# EAGLE library part XC2S-CS144 (library Xilinx)
Spartan 2 FPGA 15/30 die in a CS144 package
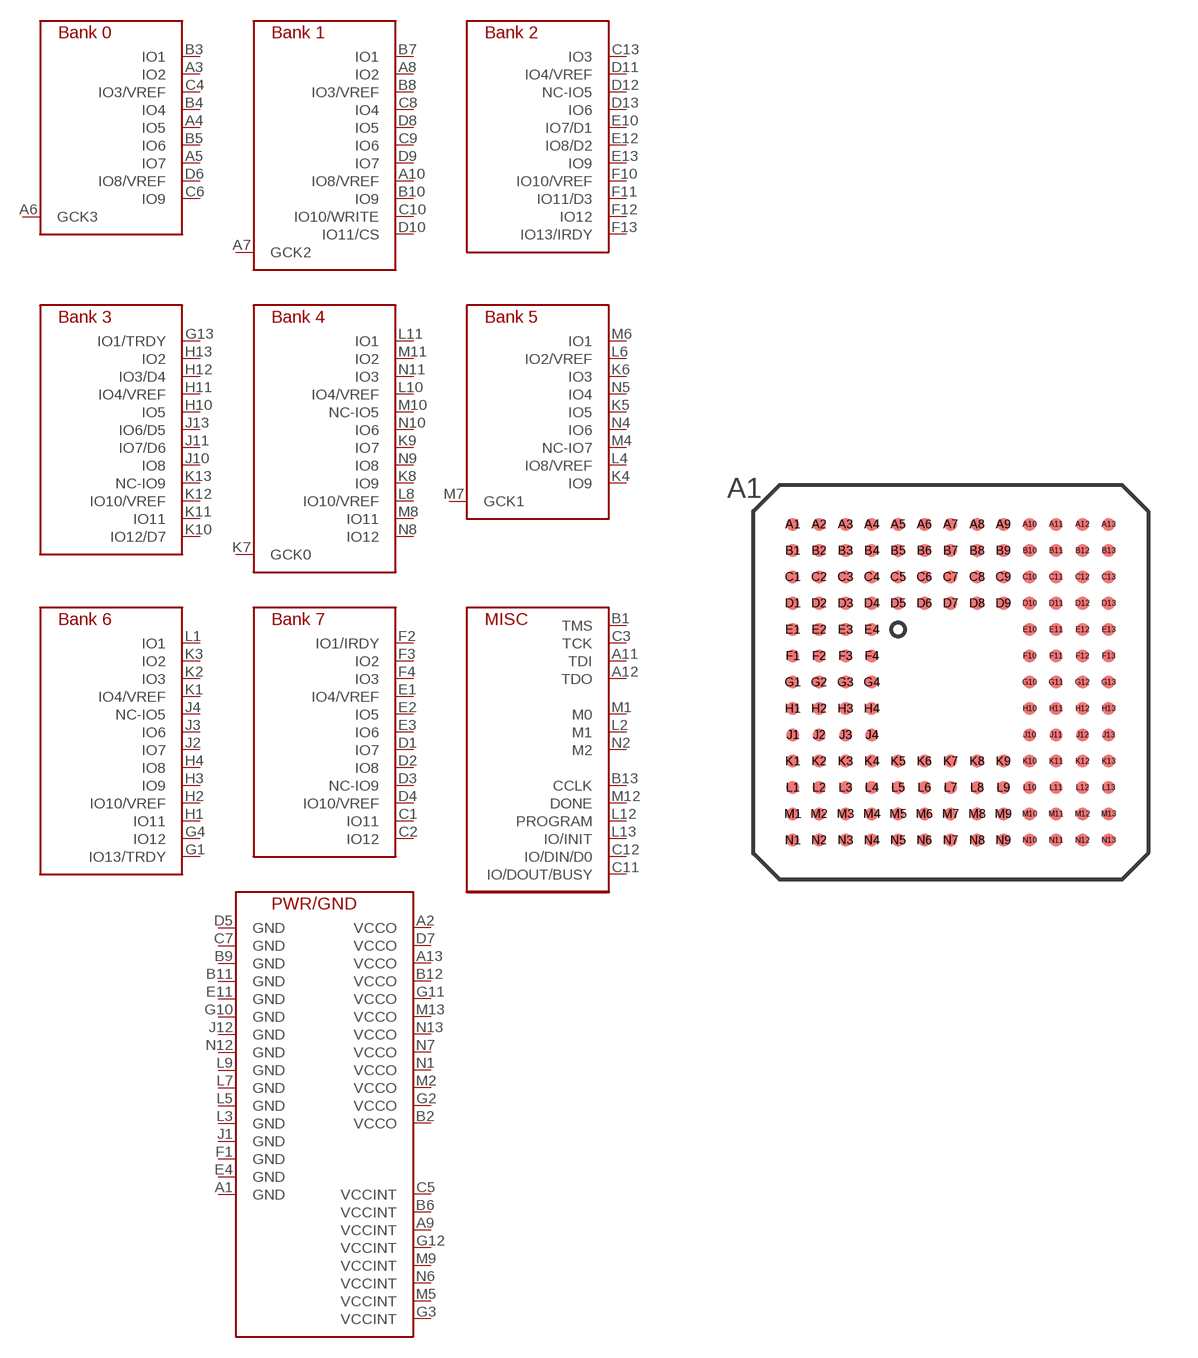
[diagram p32: symbol with the pads of CS144; footprint CS144]

Designator prefix IC; gates B0=XC2S/CS144-B0 B1=XC2S/CS144-B1 B2=XC2S/CS144-B2 B3=XC2S/CS144-B3 B4=XC2S/CS144-B4 B5=XC2S/CS144-B5 B6=XC2S/CS144-B6 B7=XC2S/CS144-B7 MISC=XC2S/CS144-MISC PWR=XC2S/CS144-PWR

## XC2S-CS144  [CS144]
A1  PWR:GND
A2  PWR:VCCO
A3  B0:IO2
A4  B0:IO5
A5  B0:IO7
A6  B0:GCK3
A7  B1:GCK2
A8  B1:IO2
A9  PWR:VCCINT
A10  B1:IO8/VREF
A11  MISC:TDI
A12  MISC:TDO
A13  PWR:VCCO
B1  MISC:TMS
B2  PWR:VCCO
B3  B0:IO1
B4  B0:IO4
B5  B0:IO6
B6  PWR:VCCINT
B7  B1:IO1
B8  B1:IO3/VREF
B9  PWR:GND
B10  B1:IO9
B11  PWR:GND
B12  PWR:VCCO
B13  MISC:CCLK
C1  B7:IO11
C2  B7:IO12
C3  MISC:TCK
C4  B0:IO3/VREF
C5  PWR:VCCINT
C6  B0:IO9
C7  PWR:GND
C8  B1:IO4
C9  B1:IO6
C10  B1:IO10/WRITE
C11  MISC:IO/DOUT/BUSY
C12  MISC:IO/DIN/D0
C13  B2:IO3
D1  B7:IO7
D2  B7:IO8
D3  B7:NC-IO9
D4  B7:IO10/VREF
D5  PWR:GND
D6  B0:IO8/VREF
D7  PWR:VCCO
D8  B1:IO5
D9  B1:IO7
D10  B1:IO11/CS
D11  B2:IO4/VREF
D12  B2:NC-IO5
D13  B2:IO6
E1  B7:IO4/VREF
E2  B7:IO5
E3  B7:IO6
E4  PWR:GND
E10  B2:IO7/D1
E11  PWR:GND
E12  B2:IO8/D2
E13  B2:IO9
F1  PWR:GND
F2  B7:IO1/IRDY
F3  B7:IO2
F4  B7:IO3
F10  B2:IO10/VREF
F11  B2:IO11/D3
F12  B2:IO12
F13  B2:IO13/IRDY
G1  B6:IO13/TRDY
G2  PWR:VCCO
G3  PWR:VCCINT
G4  B6:IO12
G10  PWR:GND
G11  PWR:VCCO
G12  PWR:VCCINT
G13  B3:IO1/TRDY
H1  B6:IO11
H2  B6:IO10/VREF
H3  B6:IO9
H4  B6:IO8
H10  B3:IO5
H11  B3:IO4/VREF
H12  B3:IO3/D4
H13  B3:IO2
J1  PWR:GND
J2  B6:IO7
J3  B6:IO6
J4  B6:NC-IO5
J10  B3:IO8
J11  B3:IO7/D6
J12  PWR:GND
J13  B3:IO6/D5
K1  B6:IO4/VREF
K2  B6:IO3
K3  B6:IO2
K4  B5:IO9
K5  B5:IO5
K6  B5:IO3
K7  B4:GCK0
K8  B4:IO9
K9  B4:IO7
K10  B3:IO12/D7
K11  B3:IO11
K12  B3:IO10/VREF
K13  B3:NC-IO9
L1  B6:IO1
L2  MISC:M1
L3  PWR:GND
L4  B5:IO8/VREF
L5  PWR:GND
L6  B5:IO2/VREF
L7  PWR:GND
L8  B4:IO10/VREF
L9  PWR:GND
L10  B4:IO4/VREF
L11  B4:IO1
L12  MISC:PROGRAM
L13  MISC:IO/INIT
M1  MISC:M0
M2  PWR:VCCO
M4  B5:NC-IO7
M5  PWR:VCCINT
M6  B5:IO1
M7  B5:GCK1
M8  B4:IO11
M9  PWR:VCCINT
M10  B4:NC-IO5
M11  B4:IO2
M12  MISC:DONE
M13  PWR:VCCO
N1  PWR:VCCO
N2  MISC:M2
N4  B5:IO6
N5  B5:IO4
N6  PWR:VCCINT
N7  PWR:VCCO
N8  B4:IO12
N9  B4:IO8
N10  B4:IO6
N11  B4:IO3
N12  PWR:GND
N13  PWR:VCCO

## Footprint CS144 (pad centres in mm)
Chip Scale BGA (cs144) package
smd 0.4 x 0.4: A1 -4.8,4.8; A2 -4,4.8; A3 -3.2,4.8; A4 -2.4,4.8; A5 -1.6,4.8; A6 -0.8,4.8; A7 0,4.8; A8 0.8,4.8; A9 1.6,4.8; A10 2.4,4.8; A11 3.2,4.8; A12 4,4.8; A13 4.8,4.8; B1 -4.8,4; B2 -4,4; B3 -3.2,4; B4 -2.4,4; B5 -1.6,4; B6 -0.8,4; B7 0,4; B8 0.8,4; B9 1.6,4; B10 2.4,4; B11 3.2,4; B12 4,4; B13 4.8,4; C1 -4.8,3.2; C2 -4,3.2; C3 -3.2,3.2; C4 -2.4,3.2; C5 -1.6,3.2; C6 -0.8,3.2; C7 0,3.2; C8 0.8,3.2; C9 1.6,3.2; C10 2.4,3.2; C11 3.2,3.2; C12 4,3.2; C13 4.8,3.2; D1 -4.8,2.4; D2 -4,2.4; D3 -3.2,2.4; D4 -2.4,2.4; D5 -1.6,2.4; D6 -0.8,2.4; D7 0,2.4; D8 0.8,2.4; D9 1.6,2.4; D10 2.4,2.4; D11 3.2,2.4; D12 4,2.4; D13 4.8,2.4; E1 -4.8,1.6; E2 -4,1.6; E3 -3.2,1.6; E4 -2.4,1.6; E10 2.4,1.6; E11 3.2,1.6; E12 4,1.6; E13 4.8,1.6; F1 -4.8,0.8; F2 -4,0.8; F3 -3.2,0.8; F4 -2.4,0.8; F10 2.4,0.8; F11 3.2,0.8; F12 4,0.8; F13 4.8,0.8; G1 -4.8,0; G2 -4,0; G3 -3.2,0; G4 -2.4,0; G10 2.4,0; G11 3.2,0; G12 4,0; G13 4.8,0; H1 -4.8,-0.8; H2 -4,-0.8; H3 -3.2,-0.8; H4 -2.4,-0.8; H10 2.4,-0.8; H11 3.2,-0.8; H12 4,-0.8; H13 4.8,-0.8; J1 -4.8,-1.6; J2 -4,-1.6; J3 -3.2,-1.6; J4 -2.4,-1.6; J10 2.4,-1.6; J11 3.2,-1.6; J12 4,-1.6; J13 4.8,-1.6; K1 -4.8,-2.4; K2 -4,-2.4; K3 -3.2,-2.4; K4 -2.4,-2.4; K5 -1.6,-2.4; K6 -0.8,-2.4; K7 0,-2.4; K8 0.8,-2.4; K9 1.6,-2.4; K10 2.4,-2.4; K11 3.2,-2.4; K12 4,-2.4; K13 4.8,-2.4; L1 -4.8,-3.2; L2 -4,-3.2; L3 -3.2,-3.2; L4 -2.4,-3.2; L5 -1.6,-3.2; L6 -0.8,-3.2; L7 0,-3.2; L8 0.8,-3.2; L9 1.6,-3.2; L10 2.4,-3.2; L11 3.2,-3.2; L12 4,-3.2; L13 4.8,-3.2; M1 -4.8,-4; M2 -4,-4; M3 -3.2,-4; M4 -2.4,-4; M5 -1.6,-4; M6 -0.8,-4; M7 0,-4; M8 0.8,-4; M9 1.6,-4; M10 2.4,-4; M11 3.2,-4; M12 4,-4; M13 4.8,-4; N1 -4.8,-4.8; N2 -4,-4.8; N3 -3.2,-4.8; N4 -2.4,-4.8; N5 -1.6,-4.8; N6 -0.8,-4.8; N7 0,-4.8; N8 0.8,-4.8; N9 1.6,-4.8; N10 2.4,-4.8; N11 3.2,-4.8; N12 4,-4.8; N13 4.8,-4.8